# Altium schematic symbol library STM6519.SchLib: 1 symbol
Pins are listed as number, name and electrical type; pins without a type are passive.

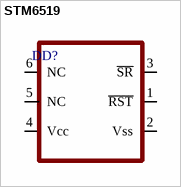
[diagram p0: symbol STM6519]

## STM6519
designator DD?
pins: 1 ~{RST}, 2 Vss, 3 ~{SR}, 4 Vcc, 5 NC, 6 NC